# EAGLE library part INA122UA (library AIN122)
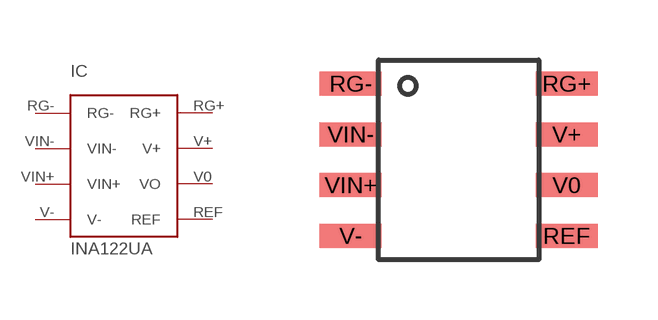
[diagram p0: symbol with the pads of S0-8; footprint S0-8]

Designator prefix IC

## INA122UA  [S0-8]
REF  REF
RG+  RG+
RG-  RG-
V0  VO
V+  V+
V-  V-
VIN+  VIN+
VIN-  VIN-

## Footprint S0-8 (pad centres in mm)
smd 1.55 x 0.6: REF 2.7,-1.905; RG+ 2.7,1.905; RG- -2.7,1.905; V0 2.7,-0.635; V+ 2.7,0.635; V- -2.7,-1.905; VIN+ -2.7,-0.635; VIN- -2.7,0.635